# Altium footprint library 2450AT18B100.PcbLib: 1 footprints
Each footprint in its own frame and in the unit in brackets; x right, y up, seen from the top. Pads: shape width x height; smd on the part's side, far side on the other; paste and mask are expansions set on the pad; w line width, h text height; cw(c..) or ccw(c..) is an arc to the next point about the centre after c.
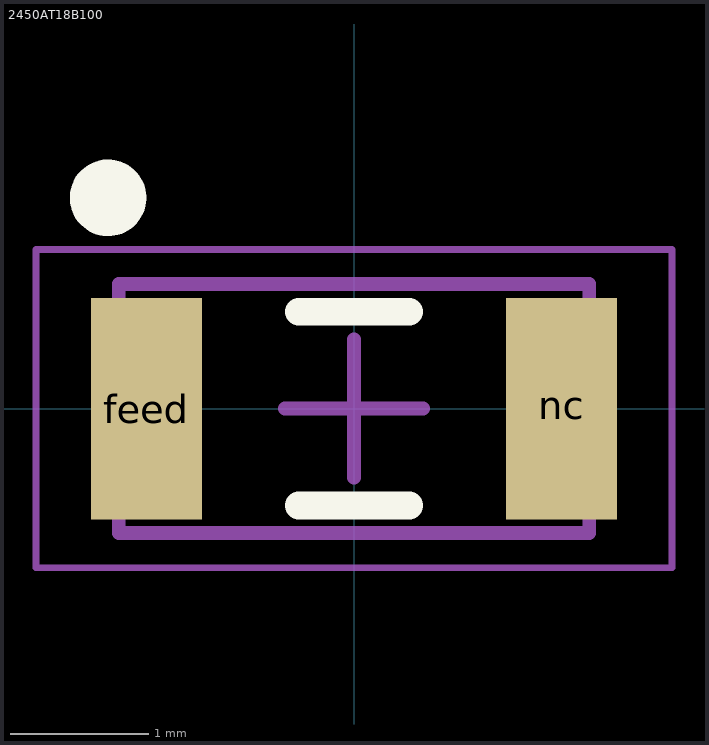
[diagram p0: the footprint, top view; thin cyan lines are the x and y axes]

## 2450AT18B100 [mm] "2.4GHz Mini Antenna"
height 1.3
pads (2):
  rect 0.8x1.6 smd: feed(-1.5,0) nc(1.5,0)
Top Overlay:
  circle w0.3: c-1.778,1.524 r0.127
  lines w0.2: -0.4,-0.7 0.4,-0.7 ; -0.4,0.7 0.4,0.7
Mechanical 13:
  lines w0.1: -1.7,-0.9 1.7,-0.9 1.7,0.9 -1.7,0.9 -1.7,-0.9
Mechanical 15:
  lines w0.05: -2.3,-1.15 2.3,-1.15 2.3,1.15 -2.3,1.15 -2.3,-1.15
  lines w0.1: -0.5,0 0.5,0 ; 0,-0.5 0,0.5
3D body: height 1.3, standoff 0, extent 1.2,-0.9 1.7,0.9
3D body: height 1.3, standoff 0, extent -1.7,-0.9 -1.2,0.9
3D body: height 1.3, standoff 0, extent -1.2,-0.9 1.2,0.9